# Altium footprint library Inductor_SMD.PcbLib: 587 footprints (part 9 of 37)
Each footprint in its own frame and in the unit in brackets; x right, y up, seen from the top. Pads: shape width x height; smd on the part's side, far side on the other; paste and mask are expansions set on the pad; w line width, h text height; cw(c..) or ccw(c..) is an arc to the next point about the centre after c.
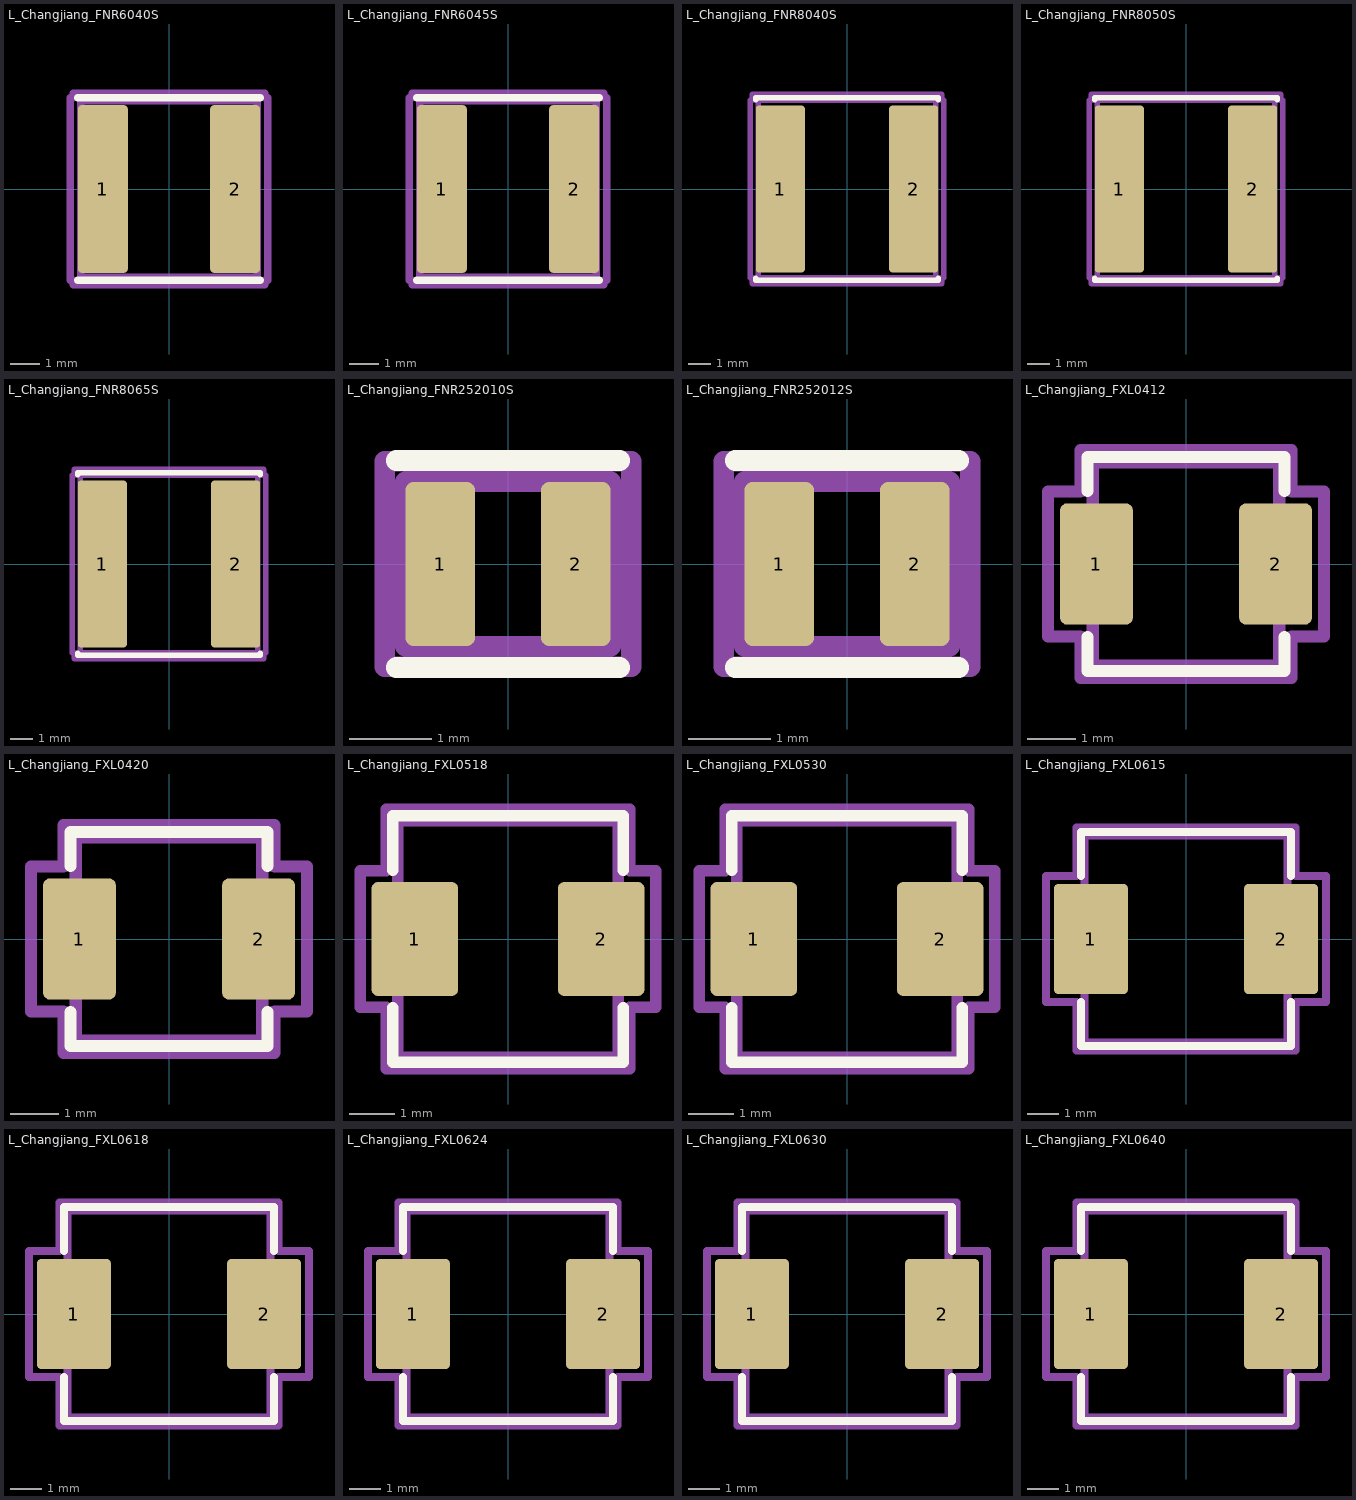
[diagram p8: the footprints below, top view; thin cyan lines are the x and y axes]

## L_Changjiang_FNR6040S [mm] "L_Changjiang_FNR6040S"
pads (2):
  rrect15% 1.7x5.7 smd: 1(-2.25,0) 2(2.25,0)
F.SilkS:
  lines w0.254: -3.11,-3.11 3.11,-3.11 ; -3.11,3.11 3.11,3.11
Top Assembly:
  lines w0.254: -3,-3 -3,3 3,3 3,-3 -3,-3
  text "'.Designator'" at -4.047,-0.84 h1
Top Courtyard:
  lines w0.254: -3.35,-3.1 -3.35,3.1 -3.25,3.1 -3.25,3.25 3.25,3.25 3.25,3.1 3.35,3.1 3.35,-3.1 3.25,-3.1 3.25,-3.25 -3.25,-3.25 -3.25,-3.1 -3.35,-3.1
Top Designator:
  text ".Designator" at -7.768,-0.508 h1.52
3D body "L_Changjiang_FNR6040S.step": height 4, standoff 0, extent -3.01,-3 3.01,3

## L_Changjiang_FNR6045S [mm] "L_Changjiang_FNR6045S"
pads (2):
  rrect15% 1.7x5.7 smd: 1(-2.25,0) 2(2.25,0)
F.SilkS:
  lines w0.254: -3.11,-3.11 3.11,-3.11 ; -3.11,3.11 3.11,3.11
Top Assembly:
  lines w0.254: -3,-3 3,-3 3,3 -3,3 -3,-3
  text "'.Designator'" at -4.047,-0.84 h1
Top Courtyard:
  lines w0.254: -3.35,-3.1 -3.25,-3.1 -3.25,-3.25 3.25,-3.25 3.25,-3.1 3.35,-3.1 3.35,3.1 3.25,3.1 3.25,3.25 -3.25,3.25 -3.25,3.1 -3.35,3.1 -3.35,-3.1
Top Designator:
  text ".Designator" at -7.768,-0.508 h1.52
3D body "L_Changjiang_FNR6045S.step": height 4.5, standoff 0, extent -3.01,-3 3.01,3

## L_Changjiang_FNR8040S [mm] "L_Changjiang_FNR8040S"
pads (2):
  rrect11% 2.2x7.5 smd: 1(-3,0) 2(3,0)
F.SilkS:
  lines w0.254: -4.11,-4.01 -4.11,-4.11 4.11,-4.11 4.11,-4.01 ; -4.11,4.01 -4.11,4.11 4.11,4.11 4.11,4.01
Top Assembly:
  lines w0.254: -4,-4 4,-4 4,4 -4,4 -4,-4
  text "'.Designator'" at -4.047,-0.84 h1
Top Courtyard:
  lines w0.254: -4.35,-4 -4.25,-4 -4.25,-4.25 4.25,-4.25 4.25,-4 4.35,-4 4.35,4 4.25,4 4.25,4.25 -4.25,4.25 -4.25,4 -4.35,4 -4.35,-4
Top Designator:
  text ".Designator" at -7.618,-0.508 h1.52
3D body "L_Changjiang_FNR8040S.step": height 4, standoff 0, extent -4.01,-4 4.01,4

## L_Changjiang_FNR8050S [mm] "L_Changjiang_FNR8050S"
pads (2):
  rrect11% 2.2x7.5 smd: 1(-3,0) 2(3,0)
F.SilkS:
  lines w0.254: -4.11,-4.01 -4.11,-4.11 4.11,-4.11 4.11,-4.01 ; -4.11,4.01 -4.11,4.11 4.11,4.11 4.11,4.01
Top Assembly:
  lines w0.254: -4,-4 -4,4 4,4 4,-4 -4,-4
  text "'.Designator'" at -4.047,-0.84 h1
Top Courtyard:
  lines w0.254: -4.35,-4 -4.35,4 -4.25,4 -4.25,4.25 4.25,4.25 4.25,4 4.35,4 4.35,-4 4.25,-4 4.25,-4.25 -4.25,-4.25 -4.25,-4 -4.35,-4
Top Designator:
  text ".Designator" at -7.618,-0.508 h1.52
3D body "L_Changjiang_FNR8050S.step": height 5, standoff 0, extent -4.01,-4 4.01,4

## L_Changjiang_FNR8065S [mm] "L_Changjiang_FNR8065S"
pads (2):
  rrect11% 2.2x7.5 smd: 1(-3,0) 2(3,0)
F.SilkS:
  lines w0.254: -4.11,-4.01 -4.11,-4.11 4.11,-4.11 4.11,-4.01 ; -4.11,4.01 -4.11,4.11 4.11,4.11 4.11,4.01
Top Assembly:
  lines w0.254: -4,-4 -4,4 4,4 4,-4 -4,-4
  text "'.Designator'" at -4.047,-0.84 h1
Top Courtyard:
  lines w0.254: -4.35,-4 -4.35,4 -4.25,4 -4.25,4.25 4.25,4.25 4.25,4 4.35,4 4.35,-4 4.25,-4 4.25,-4.25 -4.25,-4.25 -4.25,-4 -4.35,-4
Top Designator:
  text ".Designator" at -7.618,-0.508 h1.52
3D body "L_Changjiang_FNR8065S.step": height 6.5, standoff 0, extent -4.01,-4 4.01,4

## L_Changjiang_FNR252010S [mm] "L_Changjiang_FNR252010S"
pads (2):
  rrect25% 0.85x2 smd: 1(-0.825,0) 2(0.825,0)
F.SilkS:
  lines w0.254: -1.36,-1.26 1.36,-1.26 ; -1.36,1.26 1.36,1.26
Top Assembly:
  lines w0.254: -1.25,-1 1.25,-1 1.25,1 -1.25,1 -1.25,-1
  text "'.Designator'" at -2.506,-0.518 h0.62
Top Courtyard:
  lines w0.254: -1.5,-1.25 1.5,-1.25 1.5,1.25 -1.5,1.25 -1.5,-1.25
Top Designator:
  text ".Designator" at -7.708,-0.508 h1.52
3D body "L_Changjiang_FNR252010S.step": height 1, standoff 0, extent -1.25,-1 1.25,1

## L_Changjiang_FNR252012S [mm] "L_Changjiang_FNR252012S"
pads (2):
  rrect25% 0.85x2 smd: 1(-0.825,0) 2(0.825,0)
F.SilkS:
  lines w0.254: -1.36,-1.26 1.36,-1.26 ; -1.36,1.26 1.36,1.26
Top Assembly:
  lines w0.254: -1.25,-1 -1.25,1 1.25,1 1.25,-1 -1.25,-1
  text "'.Designator'" at -2.506,-0.518 h0.62
Top Courtyard:
  lines w0.254: -1.5,-1.25 -1.5,1.25 1.5,1.25 1.5,-1.25 -1.5,-1.25
Top Designator:
  text ".Designator" at -7.708,-0.508 h1.52
3D body "L_Changjiang_FNR252012S.step": height 1.2, standoff 0, extent -1.25,-1 1.25,1

## L_Changjiang_FXL0412 [mm] "L_Changjiang_FXL0412"
pads (2):
  rrect17% 1.5x2.5 smd: 1(-1.85,0) 2(1.85,0)
F.SilkS:
  lines w0.254: -2.035,-1.51 -2.035,-2.21 2.035,-2.21 2.035,-1.51 ; -2.035,1.51 -2.035,2.21 2.035,2.21 2.035,1.51
Top Assembly:
  lines w0.254: -1.925,-2.1 1.925,-2.1 1.925,2.1 -1.925,2.1 -1.925,-2.1
  text "'.Designator'" at 0.84,-4.047 h1
Top Courtyard:
  lines w0.254: -2.85,-1.5 -2.18,-1.5 -2.18,-2.35 2.18,-2.35 2.18,-1.5 2.85,-1.5 2.85,1.5 2.18,1.5 2.18,2.35 -2.18,2.35 -2.18,1.5 -2.85,1.5 -2.85,-1.5
Top Designator:
  text ".Designator" at -7.618,-0.658 h1.52

## L_Changjiang_FXL0420 [mm] "L_Changjiang_FXL0420"
pads (2):
  rrect17% 1.5x2.5 smd: 1(-1.85,0) 2(1.85,0)
F.SilkS:
  lines w0.254: -2.035,-1.51 -2.035,-2.21 2.035,-2.21 2.035,-1.51 ; -2.035,1.51 -2.035,2.21 2.035,2.21 2.035,1.51
Top Assembly:
  lines w0.254: -1.925,-2.1 -1.925,2.1 1.925,2.1 1.925,-2.1 -1.925,-2.1
  text "'.Designator'" at 0.84,-4.047 h1
Top Courtyard:
  lines w0.254: -2.85,-1.5 -2.85,1.5 -2.18,1.5 -2.18,2.35 2.18,2.35 2.18,1.5 2.85,1.5 2.85,-1.5 2.18,-1.5 2.18,-2.35 -2.18,-2.35 -2.18,-1.5 -2.85,-1.5
Top Designator:
  text ".Designator" at -7.618,-0.658 h1.52

## L_Changjiang_FXL0518 [mm] "L_Changjiang_FXL0518"
pads (2):
  rrect13% 1.9x2.5 smd: 1(-2.05,0) 2(2.05,0)
F.SilkS:
  lines w0.254: -2.535,-1.51 -2.535,-2.71 2.535,-2.71 2.535,-1.51 ; -2.535,1.51 -2.535,2.71 2.535,2.71 2.535,1.51
Top Assembly:
  lines w0.254: -2.425,-2.6 -2.425,2.6 2.425,2.6 2.425,-2.6 -2.425,-2.6
  text "'.Designator'" at -4.047,-0.84 h1
Top Courtyard:
  lines w0.254: -3.25,-1.5 -3.25,1.5 -2.68,1.5 -2.68,2.85 2.68,2.85 2.68,1.5 3.25,1.5 3.25,-1.5 2.68,-1.5 2.68,-2.85 -2.68,-2.85 -2.68,-1.5 -3.25,-1.5
Top Designator:
  text ".Designator" at -7.768,-0.508 h1.52

## L_Changjiang_FXL0530 [mm] "L_Changjiang_FXL0530"
pads (2):
  rrect13% 1.9x2.5 smd: 1(-2.05,0) 2(2.05,0)
F.SilkS:
  lines w0.254: -2.535,-1.51 -2.535,-2.71 2.535,-2.71 2.535,-1.51 ; -2.535,1.51 -2.535,2.71 2.535,2.71 2.535,1.51
Top Assembly:
  lines w0.254: -2.425,-2.6 -2.425,2.6 2.425,2.6 2.425,-2.6 -2.425,-2.6
  text "'.Designator'" at -4.047,-0.84 h1
Top Courtyard:
  lines w0.254: -3.25,-1.5 -3.25,1.5 -2.68,1.5 -2.68,2.85 2.68,2.85 2.68,1.5 3.25,1.5 3.25,-1.5 2.68,-1.5 2.68,-2.85 -2.68,-2.85 -2.68,-1.5 -3.25,-1.5
Top Designator:
  text ".Designator" at -7.768,-0.508 h1.52

## L_Changjiang_FXL0615 [mm] "L_Changjiang_FXL0615"
pads (2):
  rrect11% 2.35x3.5 smd: 1(-3.025,0) 2(3.025,0)
F.SilkS:
  lines w0.254: -3.335,-2.01 -3.335,-3.41 3.335,-3.41 3.335,-2.01 ; -3.335,2.01 -3.335,3.41 3.335,3.41 3.335,2.01
Top Assembly:
  lines w0.254: -3.225,-3.3 -3.225,3.3 3.225,3.3 3.225,-3.3 -3.225,-3.3
  text "'.Designator'" at -4.047,-0.84 h1
Top Courtyard:
  lines w0.254: -4.45,-2 -4.45,2 -3.48,2 -3.48,3.55 3.48,3.55 3.48,2 4.45,2 4.45,-2 3.48,-2 3.48,-3.55 -3.48,-3.55 -3.48,-2 -4.45,-2
Top Designator:
  text ".Designator" at -7.618,-0.508 h1.52

## L_Changjiang_FXL0618 [mm] "L_Changjiang_FXL0618"
pads (2):
  rrect11% 2.35x3.5 smd: 1(-3.025,0) 2(3.025,0)
F.SilkS:
  lines w0.254: -3.335,-2.01 -3.335,-3.41 3.335,-3.41 3.335,-2.01 ; -3.335,2.01 -3.335,3.41 3.335,3.41 3.335,2.01
Top Assembly:
  lines w0.254: -3.225,-3.3 -3.225,3.3 3.225,3.3 3.225,-3.3 -3.225,-3.3
  text "'.Designator'" at -4.047,-0.84 h1
Top Courtyard:
  lines w0.254: -4.45,-2 -4.45,2 -3.48,2 -3.48,3.55 3.48,3.55 3.48,2 4.45,2 4.45,-2 3.48,-2 3.48,-3.55 -3.48,-3.55 -3.48,-2 -4.45,-2
Top Designator:
  text ".Designator" at -7.618,-0.508 h1.52

## L_Changjiang_FXL0624 [mm] "L_Changjiang_FXL0624"
pads (2):
  rrect11% 2.35x3.5 smd: 1(-3.025,0) 2(3.025,0)
F.SilkS:
  lines w0.254: -3.335,-2.01 -3.335,-3.41 3.335,-3.41 3.335,-2.01 ; -3.335,2.01 -3.335,3.41 3.335,3.41 3.335,2.01
Top Assembly:
  lines w0.254: -3.225,-3.3 -3.225,3.3 3.225,3.3 3.225,-3.3 -3.225,-3.3
  text "'.Designator'" at -4.047,-0.84 h1
Top Courtyard:
  lines w0.254: -4.45,-2 -4.45,2 -3.48,2 -3.48,3.55 3.48,3.55 3.48,2 4.45,2 4.45,-2 3.48,-2 3.48,-3.55 -3.48,-3.55 -3.48,-2 -4.45,-2
Top Designator:
  text ".Designator" at -7.618,-0.508 h1.52

## L_Changjiang_FXL0630 [mm] "L_Changjiang_FXL0630"
pads (2):
  rrect11% 2.35x3.5 smd: 1(-3.025,0) 2(3.025,0)
F.SilkS:
  lines w0.254: -3.335,-2.01 -3.335,-3.41 3.335,-3.41 3.335,-2.01 ; -3.335,2.01 -3.335,3.41 3.335,3.41 3.335,2.01
Top Assembly:
  lines w0.254: -3.225,-3.3 -3.225,3.3 3.225,3.3 3.225,-3.3 -3.225,-3.3
  text "'.Designator'" at -4.047,-0.84 h1
Top Courtyard:
  lines w0.254: -4.45,-2 -4.45,2 -3.48,2 -3.48,3.55 3.48,3.55 3.48,2 4.45,2 4.45,-2 3.48,-2 3.48,-3.55 -3.48,-3.55 -3.48,-2 -4.45,-2
Top Designator:
  text ".Designator" at -7.618,-0.508 h1.52

## L_Changjiang_FXL0640 [mm] "L_Changjiang_FXL0640"
pads (2):
  rrect11% 2.35x3.5 smd: 1(-3.025,0) 2(3.025,0)
F.SilkS:
  lines w0.254: -3.335,-2.01 -3.335,-3.41 3.335,-3.41 3.335,-2.01 ; -3.335,2.01 -3.335,3.41 3.335,3.41 3.335,2.01
Top Assembly:
  lines w0.254: -3.225,-3.3 -3.225,3.3 3.225,3.3 3.225,-3.3 -3.225,-3.3
  text "'.Designator'" at -4.047,-0.84 h1
Top Courtyard:
  lines w0.254: -4.45,-2 -4.45,2 -3.48,2 -3.48,3.55 3.48,3.55 3.48,2 4.45,2 4.45,-2 3.48,-2 3.48,-3.55 -3.48,-3.55 -3.48,-2 -4.45,-2
Top Designator:
  text ".Designator" at -7.618,-0.508 h1.52